# Altium footprint library AVX_Diode_Footprints.PcbLib: 1 footprints
Each footprint in its own frame and in the unit in brackets; x right, y up, seen from the top. Pads: shape width x height; smd on the part's side, far side on the other; paste and mask are expansions set on the pad; w line width, h text height; cw(c..) or ccw(c..) is an arc to the next point about the centre after c.
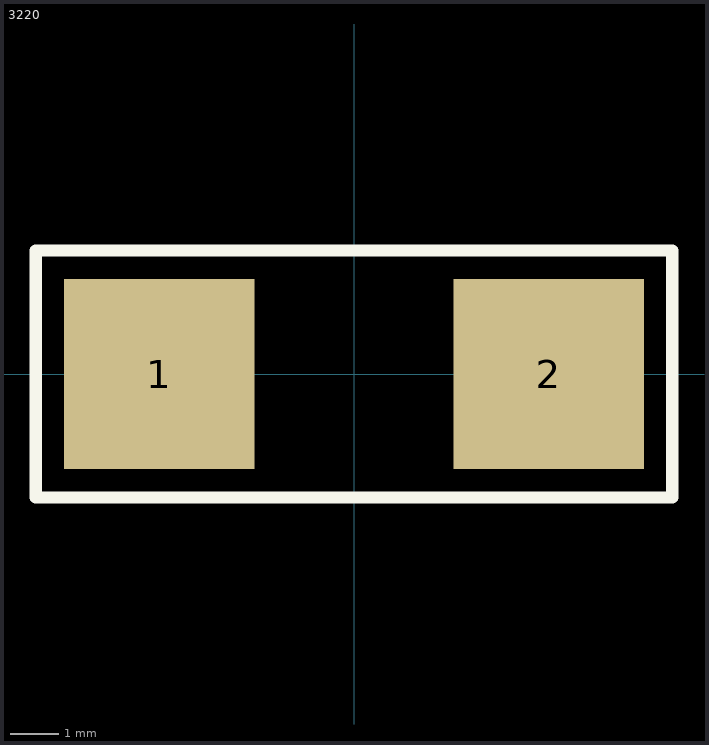
[diagram p0: the footprint, top view; thin cyan lines are the x and y axes]

## 3220 [mil]
pads (2):
  rect 154x154 smd: 1(-157.5,0) 2(157.5,0)
Top Overlay:
  lines w10: -257.5,-100 -257.5,0 -257.5,100 257.5,100 257.5,-100 -257.5,-100